# EAGLE library part 61202622821 (library Wire-to-Board (rev18a))
WR-BHD 2.54mm Male Box Header With Lever, 26 Pins=>Code : Con_WTB_BHD_2.54_Male_THT_WS_61202622821 <http://katalog.we-online.de/media/thumbs2/eican/thb_Con_WTB_BHD_2.54_Male_THT_WS_6120xx22821_pf2.jpg> Details see: http://katalog.we-online.de/en/em/612_0xx_228_21 Created 2014-06-05, Karrer Zheng 2014 (C) Würth Elektronik
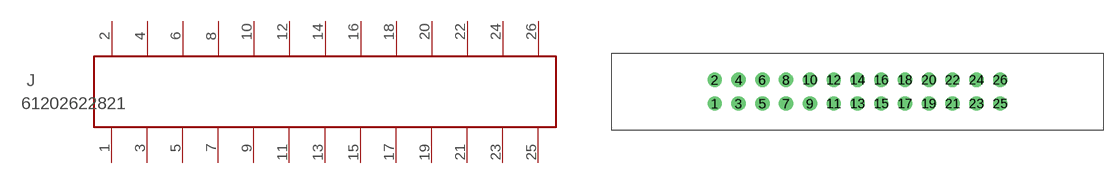
[diagram p170: symbol with the pads of 61202622821; footprint 61202622821]

Designator prefix J

## 61202622821  [61202622821]
1  1  pas
2  2  pas
3  3  pas
4  4  pas
5  5  pas
6  6  pas
7  7  pas
8  8  pas
9  9  pas
10  10  pas
11  11  pas
12  12  pas
13  13  pas
14  14  pas
15  15  pas
16  16  pas
17  17  pas
18  18  pas
19  19  pas
20  20  pas
21  21  pas
22  22  pas
23  23  pas
24  24  pas
25  25  pas
26  26  pas

## Footprint 61202622821 (pad centres in mm)
WR-BHD 2.54mm Male Box Header With Lever, 26 Pins
drill 1.02: 1 -15.24,-1.27; 2 -15.24,1.27; 3 -12.7,-1.27; 4 -12.7,1.27; 5 -10.16,-1.27; 6 -10.16,1.27; 7 -7.62,-1.27; 8 -7.62,1.27; 9 -5.08,-1.27; 10 -5.08,1.27; 11 -2.54,-1.27; 12 -2.54,1.27; 13 0,-1.27; 14 0,1.27; 15 2.54,-1.27; 16 2.54,1.27; 17 5.08,-1.27; 18 5.08,1.27; 19 7.62,-1.27; 20 7.62,1.27; 21 10.16,-1.27; 22 10.16,1.27; 23 12.7,-1.27; 24 12.7,1.27; 25 15.24,-1.27; 26 15.24,1.27